# Altium integrated library Library.IntLib: 629 symbols (part 10 of 21)
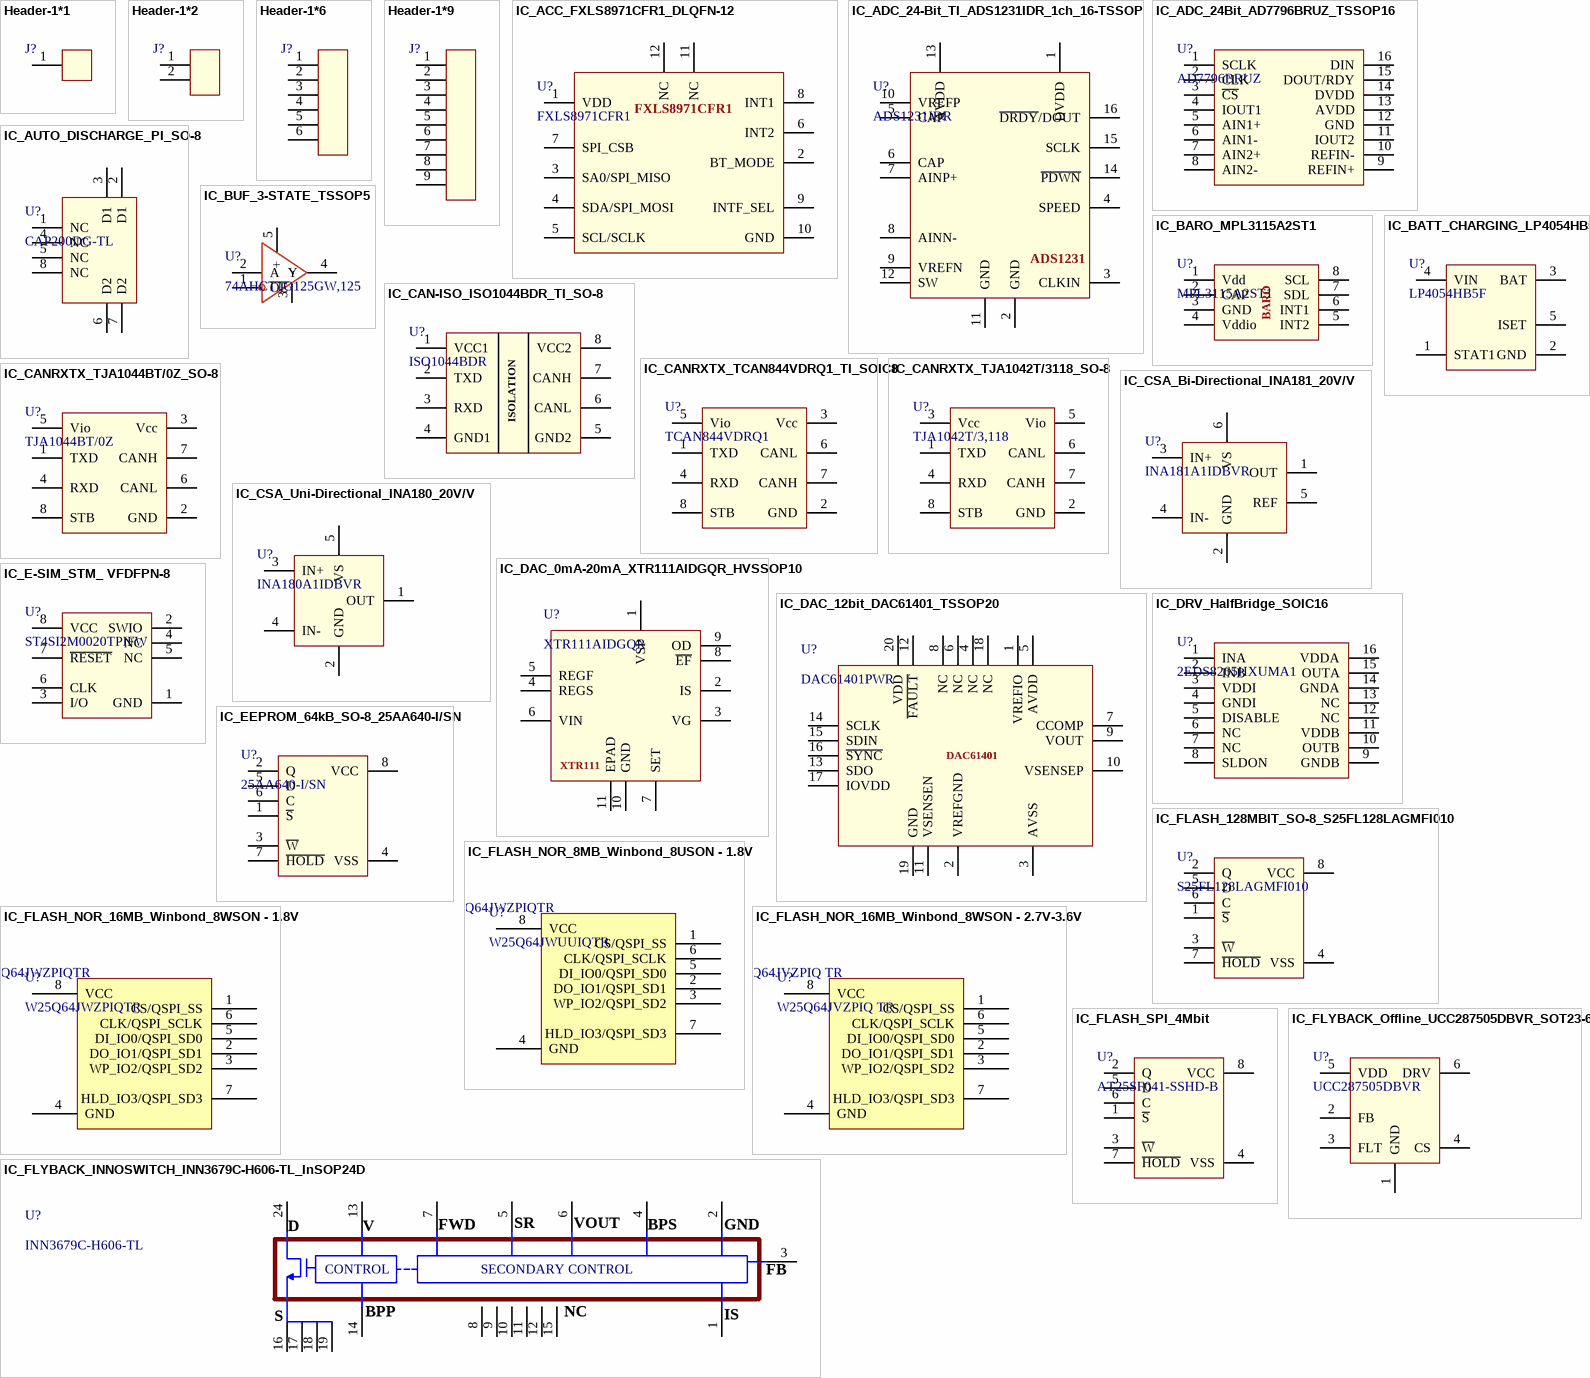
[diagram p27: symbols Header-1*1 to IC_FLYBACK_Offline_UCC287505DBVR_SOT23-6]

## IC_FLASH_NOR_16MB_Winbond_8WSON - 2.7V-3.6V
designator U?, comment W25Q64JVZPIQ TR
IC FLASH 64MBIT 104MHZ 8WSON; Manufacturer: Winbond; Supplier: Digikey; Supplier Part Number: W25Q64JVZPIQCT-ND; Manufacturer Part Number: W25Q64JVZPIQ TR; RoHS: Yes; Category: Memory; Stock: 74031; Pricing: 1=1.14, 10=1.038, 25=1.01, 50=1.005, 100=0.8983, 250=0.89568, 500=0.88218, 1000=0.84472 (USD); ComponentLink1URL: http://www.winbond.com/resource-files/w25q64jv%20spi%20%20%20revc%2006032016%20kms.pdf?src-supplier=Digikey; ComponentLink1Description: http://www.winbond.com/resource-files/w25q64jv%20spi%20%20%20revc%2006032016%20kms.pdf?src-supplier=Digikey; ComponentLink2URL: http://www.winbond.com/resource-files/w25q64jv%20revj%2003272018%20plus.pdf?src-supplier=Digikey; ComponentLink2Description: http://www.winbond.com/resource-files/w25q64jv%20revj%2003272018%20plus.pdf?src-supplier=Digikey
footprint WSON8 6*5mm WO Pad
pins: 1 CS/QSPI_SS, 2 DO_IO1/QSPI_SD1, 3 WP_IO2/QSPI_SD2, 4 GND, 5 DI_IO0/QSPI_SD0, 6 CLK/QSPI_SCLK, 7 HLD_IO3/QSPI_SD3, 8 VCC

## IC_FLASH_SPI_4Mbit
designator U?, comment AT25SF041-SSHD-B
4Mbit, 2.5V to 3.6V Range SPI Serial Flash Memory with Dual-I/O and Quad-I/O Support; Manufacturer: Renesas; Supplier: Newark; Supplier Part Number: 67AC3377; Manufacturer Part Number: AT25SF041-SSHD-B; RoHS: No; Category: Uncategorized
footprint SO-8 (1.27mm pitch)
pins: 1 ~{S}, 2 Q, 3 ~{W}, 4 VSS, 5 D, 6 C, 7 ~{HOLD}, 8 VCC

## IC_FLYBACK_INNOSWITCH_INN3679C-H606-TL_InSOP24D
designator U?, comment INN3679C-H606-TL
Converter Offline Flyback, Secondary Side SR Topology 65kHz InSOP-24D; Manufacturer: Power Integrations; Supplier: Digikey; Supplier Part Number: 596-INN3679C-H606-TLCT-ND; Manufacturer Part Number: INN3679C-H606-TL; RoHS: Yes; Category: Integrated Circuits (ICs); Stock: 4606; Pricing: 1=3.68, 100=3.0433, 1000=2.59001 (USD); RoHS Compliant: Yes; ComponentLink1URL: https://datasheet.ciiva.com:443/pdfs/VipMasterIC/IC/POIN/POIN-S-A0008602375/POIN-S-A0008602375-1.pdf?src-supplier=IHS+Markit; ComponentLink1Description: https://datasheet.ciiva.com:443/pdfs/VipMasterIC/IC/POIN/POIN-S-A0008602375/POIN-S-A0008602375-1.pdf?src-supplier=IHS+Markit; ComponentLink2URL: https://ac-dc.power.com/sites/default/files/product_document/data_sheet/innoswitch3-ep_family_datasheet.pdf?src-supplier=Digikey; ComponentLink2Description: https://ac-dc.power.com/sites/default/files/product_document/data_sheet/innoswitch3-ep_family_datasheet.pdf?src-supplier=Digikey
footprint InnoSwitch3-EP
pins: 1 IS, 2 GND, 3 FB, 4 BPS, 5 SR, 6 VOUT, 7 FWD, 8 NC, 9 NC, 10 NC, 11 NC, 12 NC, 13 V, 14 BPP, 15 NC, 16 S, 17 S, 18 S, 19 S, 24 D
text: CONTROL; SECONDARY CONTROL

## IC_FLYBACK_Offline_UCC287505DBVR_SOT23-6
designator U?, comment UCC287505DBVR
Current-mode flyback controller with secondary-side regulation (SSR) for offline applications 6-SOT-23 -40 to 125; Manufacturer: Texas Instruments; Supplier: Mouser; Supplier Part Number: 595-UCC287505DBVR; Manufacturer Part Number: UCC287505DBVR; RoHS: No; Stock: 2950; Pricing: 1=0.44, 10=0.355, 50=0.355, 100=0.242, 1000=0.136, 10000=0.109 (USD)
footprint SOT23-6
pins: 1 GND, 2 FB, 3 FLT, 4 CS, 5 VDD, 6 DRV

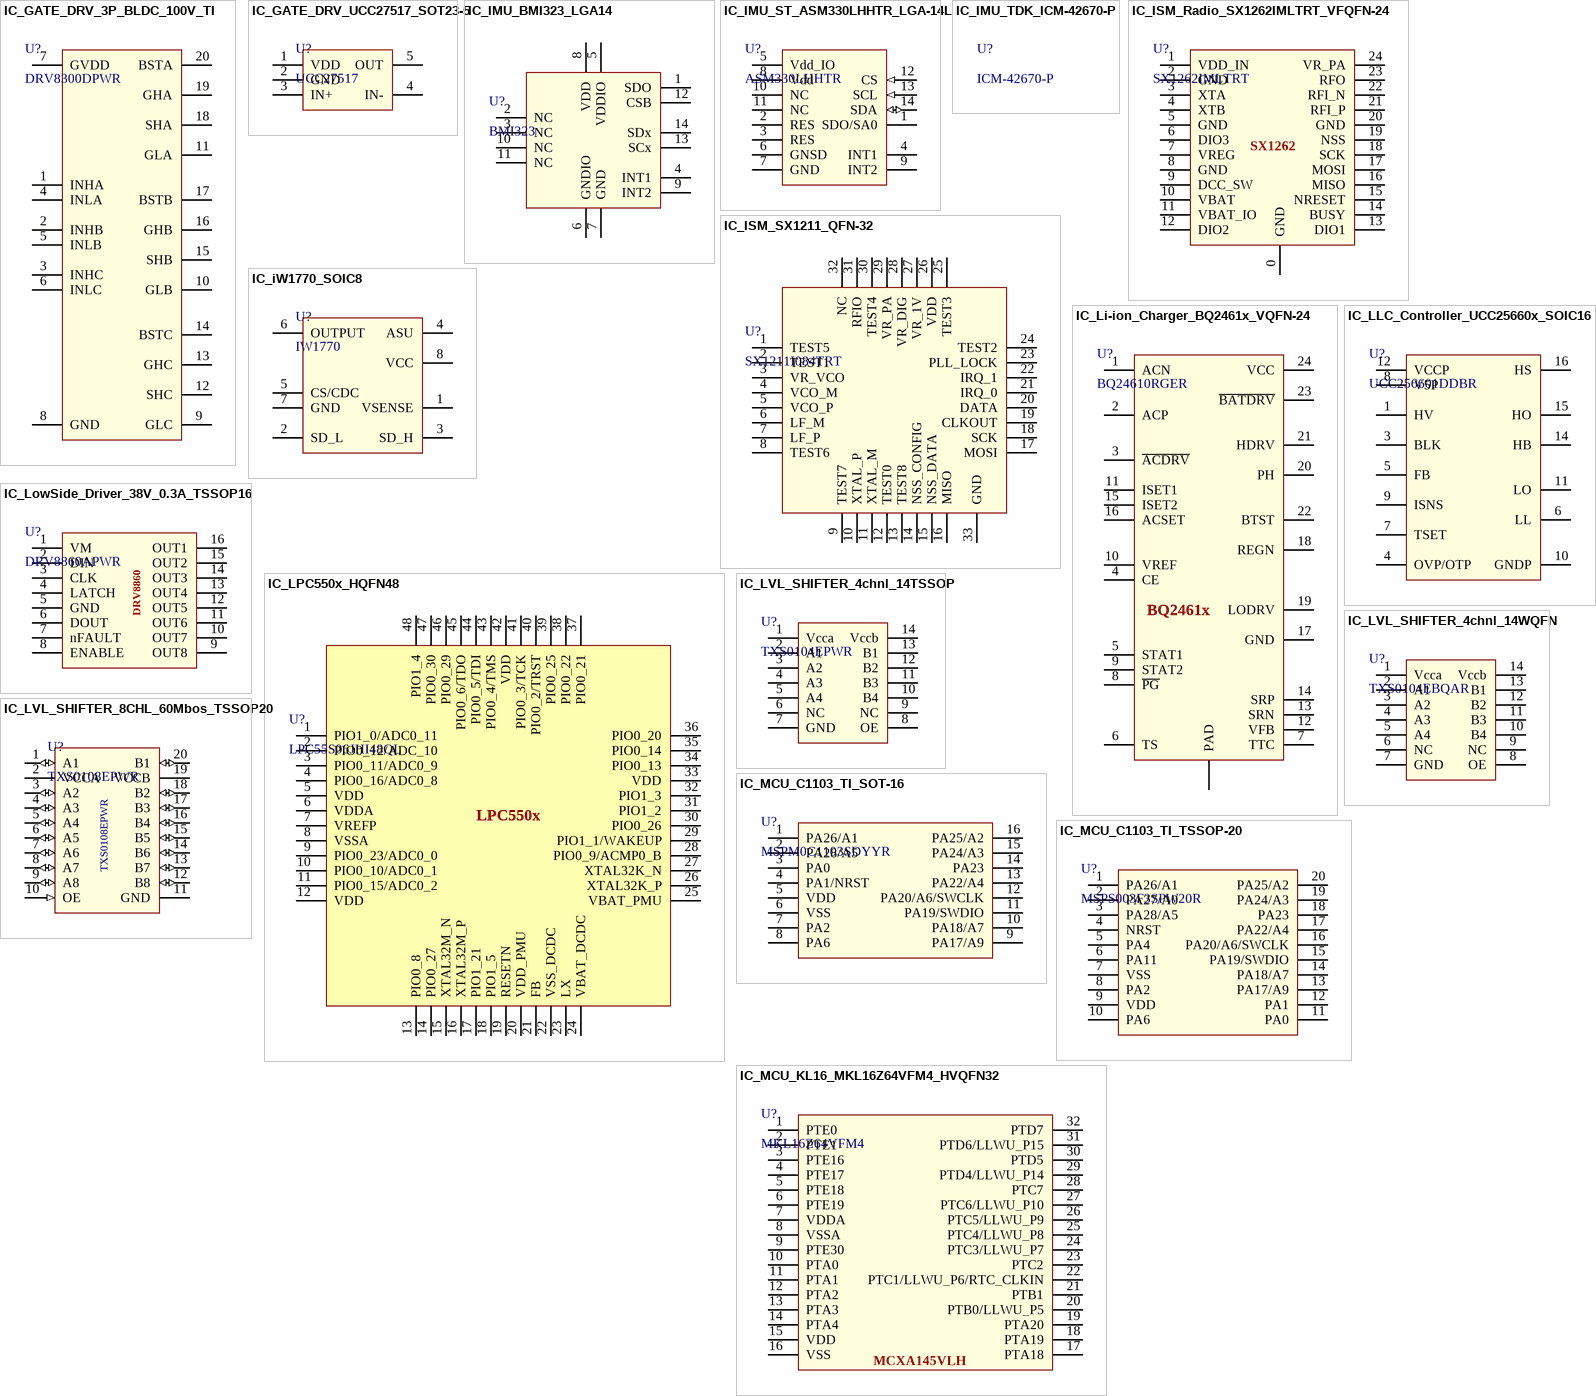
[diagram p7: symbols IC_GATE_DRV_3P_BLDC_100V_TI to IC_MCU_KL16_MKL16Z64VFM4_HVQFN32]

## IC_GATE_DRV_3P_BLDC_100V_TI
designator U?, comment DRV8300DPWR
Half Bridge Based MOSFET Driver, 1.5A, PDSO20; Manufacturer: Texas Instruments; Supplier: Digikey; Supplier Part Number: 296-DRV8300DPWRCT-ND; Manufacturer Part Number: DRV8300DPWR; RoHS: Yes; Category: Integrated Circuits (ICs); Stock: 8268; Pricing: 1=1.24, 10=1.105, 25=1.0488, 100=0.8616, 250=0.80544, 500=0.71178, 1000=0.56193 (USD)
footprint TSSOP20
pins: 1 INHA, 2 INHB, 3 INHC, 4 INLA, 5 INLB, 6 INLC, 7 GVDD, 8 GND, 9 GLC, 10 GLB, 11 GLA, 12 SHC, 13 GHC, 14 BSTC, 15 SHB, 16 GHB, 17 BSTB, 18 SHA, 19 GHA, 20 BSTA

## IC_GATE_DRV_UCC27517_SOT23-5
designator U?, comment UCC27517
Buffer/Inverter Based MOSFET Driver, 4A, PDSO5; Manufacturer: Texas Instruments; Manufacturer Part Number: UCC27517AQDBVRQ1; Package Body Material: Plastic; Interface IC Type: BUFFER OR INVERTER BASED MOSFET DRIVER; Package Equivalence Code: TSOP5/6,.11,37; Power Supplies: 12V; Qualification Status: Not Qualified; Supplier: Mouser; Supplier Part Number: 595-UCC27517AQDBVRQ1; RoHS: Yes; Category: Gate Drivers; Stock: 51349; Pricing: 1=1.16, 10=0.757, 50=0.757, 100=0.627, 1000=0.554, 10000=0.511 (USD); Case/Package: TSOP; Pins: 5; Package Shape: Rectangular; Terminal Finish: Nickel; Min Operating Temperature: -40°C; Max Operating Temperature: 140°C; JESD-609 Code: e4; JESD-30 Code: R-PDSO-G5; Moisture Sensitivity Level: 1; Package Style: SMALL OUTLINE, THIN PROFILEMeter; Peak Reflow Temperature (Cel): 260°C; Nominal Supply Voltage: 12V; Surface Mount: Yes; Terminal Form: Gull Wing; Terminal Position: DUAL; Terminal Pitch: 0.95mm; Temperature Grade: AUTOMOTIVE; Reach SVHC Compliant: Yes; RoHS Compliant: Yes; ComponentLink1URL: https://www.ti.com:443/lit/ds/symlink/ucc27517a-q1.pdf?src-supplier=IHS+Markit; ComponentLink1Description: https://www.ti.com:443/lit/ds/symlink/ucc27517a-q1.pdf?src-supplier=IHS+Markit; ComponentLink2URL: https://datasheet.ciiva.com/29985/ucc27517a-q1-29985866.pdf?src-supplier=Avnet; ComponentLink2Description: https://datasheet.ciiva.com/29985/ucc27517a-q1-29985866.pdf?src-supplier=Avnet; ComponentLink3URL: https://datasheet.ciiva.com/29600/ucc27517a-q1-29600683.pdf?src-supplier=Digikey; ComponentLink3Description: https://datasheet.ciiva.com/29600/ucc27517a-q1-29600683.pdf?src-supplier=Digikey
footprint SOT23-5
pins: 1 VDD, 2 GND, 3 IN+, 4 IN-, 5 OUT

## IC_IMU_BMI323_LGA14
designator U?, comment BMI323
IMU Accel/gyro I2C/SPI 14LGA; Manufacturer: Bosch Tools; Supplier: Digikey; Supplier Part Number: 828-BMI323CT-ND; Manufacturer Part Number: BMI323; RoHS: No; Category: Linear ICs; Stock: 4215; Pricing: 1=4.43, 5=3.73, 10=3.466, 25=3.1452, 50=2.9226, 100=2.7159, 500=2.29112, 1000=2.12941 (USD)
footprint LGA-14L
pins: 1 SDO, 2 NC, 3 NC, 4 INT1, 5 VDDIO, 6 GNDIO, 7 GND, 8 VDD, 9 INT2, 10 NC, 11 NC, 12 CSB, 13 SCx, 14 SDx

## IC_IMU_ST_ASM330LHHTR_LGA-14L
designator U?, comment ASM330LHHTR
Accelerometer, Gyroscope, Temperature, 6 Axis Sensor I2C, SPI Output; Manufacturer: STMicroelectronics; Throw Configuration: ANALOG CIRCUIT; Supplier: Digikey; Supplier Part Number: 497-19078-1-ND; Manufacturer Part Number: ASM330LHHTR; RoHS: Yes; Category: Inertial Measurement Units (IMUs); Stock: 8175; Pricing: 1=11.49, 10=9.191, 25=8.502, 100=7.353, 500=6.8934, 1000=6.43384 (USD); Reach SVHC Compliant: Yes; RoHS Compliant: Yes; ComponentLink1URL: https://datasheet.ciiva.com:443/pdfs/VipMasterIC/IC/SGST/SGST-S-A0007768447/SGST-S-A0007768447-1.pdf?src-supplier=IHS+Markit; ComponentLink1Description: https://datasheet.ciiva.com:443/pdfs/VipMasterIC/IC/SGST/SGST-S-A0007768447/SGST-S-A0007768447-1.pdf?src-supplier=IHS+Markit; ComponentLink2URL: https://www.st.com/resource/en/datasheet/asm330lhh.pdf?src-supplier=Digikey; ComponentLink2Description: https://www.st.com/resource/en/datasheet/asm330lhh.pdf?src-supplier=Digikey
footprint LGA-14L
pins: 1 SDO/SA0, 2 RES, 3 RES, 4 INT1, 5 Vdd_IO, 6 GNSD (power), 7 GND (power), 8 Vdd (power), 9 INT2, 10 NC, 11 NC, 12 CS (in), 13 SCL (in), 14 SDA (io)

## IC_IMU_TDK_ICM-42670-P
designator U?, comment ICM-42670-P
Manufacturer: TDK; Supplier: Mouser; Supplier Part Number: 410-ICM-42670-P; Manufacturer Part Number: ICM-42670-P; RoHS: No; Stock: 7642; Pricing: 1=4.8, 10=3.07, 50=3.07, 100=2.98, 1000=2.33, 10000=2.18 (USD)

## IC_ISM_Radio_SX1262IMLTRT_VFQFN-24
designator U?, comment SX1262IMLTRT
IC RF TxRx Only General ISM < 1GHz LoRaWAN 150MHz ~ 960MHz 24-VFQFN Exposed Pad; Manufacturer: Semtech; Telecom IC Type: TELECOM CIRCUIT; Supplier: Arrow Electronics; Supplier Part Number: SX1262IMLTRT; Manufacturer Part Number: SX1262IMLTRT; RoHS: Yes; Category: RF Receivers, Transceivers; Stock: 30000; Pricing: 3000=3.009 (USD); Reach SVHC Compliant: Yes; RoHS Compliant: Yes; ComponentLink1URL: https://datasheet.ciiva.com:443/pdfs/VipMasterIC/IC/SEMT/SEMT-S-A0008596633/SEMT-S-A0008596633-1.pdf?src-supplier=IHS+Markit; ComponentLink1Description: https://datasheet.ciiva.com:443/pdfs/VipMasterIC/IC/SEMT/SEMT-S-A0008596633/SEMT-S-A0008596633-1.pdf?src-supplier=IHS+Markit; ComponentLink2URL: http://www.farnell.com/datasheets/2829356.pdf?src-supplier=Farnell; ComponentLink2Description: http://www.farnell.com/datasheets/2829356.pdf?src-supplier=Farnell; ComponentLink3URL: https://www.semtech.com/uploads/documents/DS_SX1261-2_V1.1.pdf?src-supplier=Digikey; ComponentLink3Description: https://www.semtech.com/uploads/documents/DS_SX1261-2_V1.1.pdf?src-supplier=Digikey; ComponentLink4URL: https://semtech.my.salesforce.com/sfc/p/E0000000JelG/a/2R000000HT7B/4cQ1B3JG0iKRo9DGRkjVuxclfwB.3tfSUcGr.S_dPd4?src-supplier=Digikey; ComponentLink4Description: https://semtech.my.salesforce.com/sfc/p/E0000000JelG/a/2R000000HT7B/4cQ1B3JG0iKRo9DGRkjVuxclfwB.3tfSUcGr.S_dPd4?src-supplier=Digikey; ComponentLink5URL: http://www.farnell.com/datasheets/2829356.pdf?src-supplier=Newark; ComponentLink5Description: http://www.farnell.com/datasheets/2829356.pdf?src-supplier=Newark
footprint VFQFN-24
pins: 0 GND, 1 VDD_IN, 2 GND, 3 XTA, 4 XTB, 5 GND, 6 DIO3, 7 VREG, 8 GND, 9 DCC_SW, 10 VBAT, 11 VBAT_IO, 12 DIO2, 13 DIO1, 14 BUSY, 15 NRESET, 16 MISO, 17 MOSI, 18 SCK, 19 NSS, 20 GND, 21 RFI_P, 22 RFI_N, 23 RFO, 24 VR_PA
text: SX1262

## IC_ISM_SX1211_QFN-32
designator U?, comment SX1211I084TRT
Ethernet Transceiver; Manufacturer: Semtech; Channels: 1; Package Equivalence Code: LCC32,.2SQ,20; Power Supplies: 3.3V; Max Supply Current: 30uA; Qualification Status: Not Qualified; Supplier: Farnell; Supplier Part Number: 2308697; Manufacturer Part Number: SX1211I084TRT; RoHS: Yes; Category: RF Receivers, Transceivers; Stock: 1622; Pricing: 1=4.77, 10=3.89, 25=3.76, 50=3.63, 100=3.5, 250=3.2, 500=2.87 (EUR); Case/Package: HVQCCN; Pins: 32; Package Shape: Square; Terminal Finish: Tin; Min Operating Temperature: -40°C; Max Operating Temperature: 85°C; JESD-609 Code: e3; JESD-30 Code: S-XQCC-N32; Package Style: CHIP CARRIER, HEAT SINK/SLUG, VERY THIN PROFILEMeter; Nominal Supply Voltage: 3.3V; Surface Mount: Yes; Telecom IC Type: ETHERNET TRANSCEIVER; Terminal Form: No Lead; Terminal Position: QUAD; Length: 5mm; Width: 5mm; Height - Seated (Max): 0.8mm; Terminal Pitch: 0.5mm; Temperature Grade: INDUSTRIAL; Reach SVHC Compliant: Yes; RoHS Compliant: Yes; ComponentLink1URL: https://datasheet.ciiva.com:443/pdfs/VipMasterIC/IC/SEMT/SEMTS04267/SEMTS04267-1.pdf?src-supplier=IHS+Markit; ComponentLink1Description: https://datasheet.ciiva.com:443/pdfs/VipMasterIC/IC/SEMT/SEMTS04267/SEMTS04267-1.pdf?src-supplier=IHS+Markit; ComponentLink2URL: https://datasheet.ciiva.com/22617/1699438-22617255.pdf?src-supplier=Element14; ComponentLink2Description: https://datasheet.ciiva.com/22617/1699438-22617255.pdf?src-supplier=Element14; ComponentLink3URL: https://datasheet.ciiva.com/2800/sx1211-2800336.pdf?src-supplier=Digikey; ComponentLink3Description: https://datasheet.ciiva.com/2800/sx1211-2800336.pdf?src-supplier=Digikey; ComponentLink4URL: https://datasheet.ciiva.com/2800/sx1211-2800337.pdf?src-supplier=Digikey; ComponentLink4Description: https://datasheet.ciiva.com/2800/sx1211-2800337.pdf?src-supplier=Digikey
footprint QFN-32
pins: 1 TEST5, 2 TEST1, 3 VR_VCO , 4 VCO_M, 5 VCO_P, 6 LF_M, 7 LF_P, 8 TEST6, 9 TEST7, 10 XTAL_P, 11 XTAL_M, 12 TEST0, 13 TEST8, 14 NSS_CONFIG, 15 NSS_DATA, 16 MISO, 17 MOSI, 18 SCK, 19 CLKOUT, 20 DATA, 21 IRQ_0, 22 IRQ_1, 23 PLL_LOCK, 24 TEST2, 25 TEST3, 26 VDD, 27 VR_1V, 28 VR_DIG, 29 VR_PA, 30 TEST4, 31 RFIO, 32 NC, 33 GND

## IC_iW1770_SOIC8
designator U?, comment IW1770
Switching Controller; Manufacturer: Dialog Semiconductor; Manufacturer Part Number: IW1770-03; Supplier: Avnet; Supplier Part Number: IW1770-03; RoHS: No; Category: Power Supply Modules; Pricing: 5000=0.83 (USD); Throw Configuration: SWITCHING CONTROLLER; ComponentLink1URL: https://datasheet.ciiva.com:443/pdfs/VipMasterIC/IC/DIAL/DIAL-S-A0004998201/DIAL-S-A0004998201-1.pdf?src-supplier=IHS+Markit; ComponentLink1Description: https://datasheet.ciiva.com:443/pdfs/VipMasterIC/IC/DIAL/DIAL-S-A0004998201/DIAL-S-A0004998201-1.pdf?src-supplier=IHS+Markit
footprint SO-8 (1.27mm pitch)
pins: 1 VSENSE, 2 SD_L, 3 SD_H, 4 ASU, 5 CS/CDC, 6 OUTPUT, 7 GND, 8 VCC

## IC_Li-ion_Charger_BQ2461x_VQFN-24
designator U?, comment BQ24610RGER
Power Supply Support Circuit, Adjustable, 1 Channel, +3.85V, PQCC24; Manufacturer: Texas Instruments; Package Body Material: Plastic; Adjustable Threshold: Yes; Number of Channels: 1; Package Equivalence Code: LCC24,.16SQ,20; Power Supplies: 5/28V; Max Supply Voltage: 28V; Min Supply Voltage: 5V; Qualification Status: Not Qualified; Supplier: Mouser; Supplier Part Number: 595-BQ24610RGER; Manufacturer Part Number: BQ24610RGER; RoHS: Yes; Category: Battery Management; Stock: 2643; Pricing: 1=4.02, 10=3.08, 50=2.84, 100=2.58, 1000=2.3, 10000=2.23 (USD); Case/Package: HVQCCN; Pins: 24; Package Shape: Square; Terminal Finish: Nickel; Min Operating Temperature: -40°C; Max Operating Temperature: 85°C; JESD-609 Code: e4; Throw Configuration: POWER SUPPLY SUPPORT CIRCUIT; Moisture Sensitivity Level: 2; Channels: 1; Package Style: CHIP CARRIER, HEAT SINK/SLUG, VERY THIN PROFILEMeter; Peak Reflow Temperature (Cel): 260°C; Surface Mount: Yes; Terminal Form: No Lead; Terminal Position: QUAD; Length: 4mm; Width: 4mm; Height - Seated (Max): 1mm; Terminal Pitch: 0.5mm; Temperature Grade: INDUSTRIAL; Reach SVHC Compliant: Yes; RoHS Compliant: Yes; ComponentLink1URL: https://www.ti.com:443/lit/ds/symlink/bq24610.pdf?src-supplier=IHS+Markit; ComponentLink1Description: https://www.ti.com:443/lit/ds/symlink/bq24610.pdf?src-supplier=IHS+Markit; ComponentLink2URL: https://datasheet.ciiva.com/1934/bq24610-1934921.pdf?src-supplier=Digikey; ComponentLink2Description: https://datasheet.ciiva.com/1934/bq24610-1934921.pdf?src-supplier=Digikey; ComponentLink3URL: https://datasheet.ciiva.com/1934/bq24610-1934920.pdf?src-supplier=Digikey; ComponentLink3Description: https://datasheet.ciiva.com/1934/bq24610-1934920.pdf?src-supplier=Digikey; ComponentLink4URL: https://datasheet.ciiva.com/1934/bq24610-1934922.pdf?src-supplier=Digikey; ComponentLink4Description: https://datasheet.ciiva.com/1934/bq24610-1934922.pdf?src-supplier=Digikey
footprint VFQFN-24
pins: 0 PAD, 1 ACN, 2 ACP, 3 ~{ACDRV}, 4 CE, 5 STAT1, 6 TS, 7 TTC, 8 ~{PG}, 9 STAT2, 10 VREF, 11 ISET1, 12 VFB, 13 SRN, 14 SRP, 15 ISET2, 16 ACSET, 17 GND, 18 REGN, 19 LODRV, 20 PH, 21 HDRV, 22 BTST, 23 ~{BATDRV}, 24 VCC
text: BQ2461x

## IC_LLC_Controller_UCC25660x_SOIC16
designator U?, comment UCC256601DDBR
Power Supply Controller LLC, Resonant Converter Controller 14-SOIC; Manufacturer: Texas Instruments; Supplier: Mouser; Supplier Part Number: 595-UCC256601DDBR; Manufacturer Part Number: UCC256601DDBR; RoHS: No; Stock: 1998; Pricing: 1=2.4, 10=1.63, 50=1.63, 100=1.46, 1000=1.29, 10000=1.19 (USD)
footprint SOIC 16 14-16
pins: 1 HV, 3 BLK, 4 OVP/OTP, 5 FB, 6 LL, 7 TSET, 8 V5P, 9 ISNS, 10 GNDP, 11 LO, 12 VCCP, 14 HB, 15 HO, 16 HS

## IC_LowSide_Driver_38V_0.3A_TSSOP16
designator U?, comment DRV8860APWR
Buffer/Inverter Based Peripheral Driver, PDSO16; Manufacturer: Texas Instruments; Interface IC Type: BUFFER OR INVERTER BASED PERIPHERAL DRIVER; Supplier: Mouser; Supplier Part Number: 595-DRV8860APWR; Manufacturer Part Number: DRV8860APWR; RoHS: Yes; Category: Integrated Circuits (ICs); Stock: 1689; Pricing: 1=2.44, 10=2.07, 50=1.96, 100=1.85, 1000=1.64, 10000=1.55 (USD); Terminal Finish: Nickel; JESD-609 Code: e4; Moisture Sensitivity Level: 1; Reach SVHC Compliant: Yes; RoHS Compliant: Yes; ComponentLink1URL: https://www.ti.com:443/lit/ds/symlink/drv8860.pdf?src-supplier=IHS+Markit; ComponentLink1Description: https://www.ti.com:443/lit/ds/symlink/drv8860.pdf?src-supplier=IHS+Markit; ComponentLink2URL: http://www.ti.com/lit/ds/symlink/drv8860.pdf?src-supplier=Digikey; ComponentLink2Description: http://www.ti.com/lit/ds/symlink/drv8860.pdf?src-supplier=Digikey; ComponentLink3URL: http://www.ti.com/general/docs/suppproductinfo.tsp?distId=10&amp;gotoUrl=http%3A%2F%2Fwww.ti.com%2Flit%2Fgpn%2Fdrv8860&src-supplier=Digikey; ComponentLink3Description: http://www.ti.com/general/docs/suppproductinfo.tsp?distId=10&amp;gotoUrl=http%3A%2F%2Fwww.ti.com%2Flit%2Fgpn%2Fdrv8860&src-supplier=Digikey; ComponentLink4URL: http://www.farnell.com/datasheets/2075781.pdf?src-supplier=Element14; ComponentLink4Description: http://www.farnell.com/datasheets/2075781.pdf?src-supplier=Element14
footprint TSSOP16
pins: 1 VM, 2 DIN, 3 CLK, 4 LATCH, 5 GND, 6 DOUT, 7 nFAULT, 8 ENABLE, 9 OUT8, 10 OUT7, 11 OUT6, 12 OUT5, 13 OUT4, 14 OUT3, 15 OUT2, 16 OUT1
text: DRV8860

## IC_LPC550x_HQFN48
designator U?, comment LPC55S06JHI48QL
MCU 32-Bit ARM Cortex-M33 RISC 256kByte Flash 1.8V to 3.6V 48-Pin HVQFN Tray; Manufacturer: NXP Semiconductors; Supplier: Mouser; Supplier Part Number: 771-LPC55S06JHI48QL; Manufacturer Part Number: LPC55S06JHI48QL; RoHS: No; Category: Microcontrollers; Stock: 2605; Pricing: 1=6.51, 10=5.09, 50=5.09, 100=4.17, 1000=4.17, 10000=3.51 (USD)
pins: 1 PIO1_0/ADC0_11, 2 PIO0_12/ADC_10, 3 PIO0_11/ADC0_9, 4 PIO0_16/ADC0_8, 5 VDD, 6 VDDA, 7 VREFP, 8 VSSA, 9 PIO0_23/ADC0_0, 10 PIO0_10/ADC0_1, 11 PIO0_15/ADC0_2, 12 VDD, 13 PIO0_8, 14 PIO0_27, 15 XTAL32M_N, 16 XTAL32M_P, 17 PIO1_21, 18 PIO1_5, 19 RESETN, 20 VDD_PMU, 21 FB, 22 VSS_DCDC, 23 LX, 24 VBAT_DCDC, 25 VBAT_PMU, 26 XTAL32K_P, 27 XTAL32K_N, 28 PIO0_9/ACMP0_B, 29 PIO1_1/WAKEUP, 30 PIO0_26, 31 PIO1_2, 32 PIO1_3, 33 VDD, 34 PIO0_13, 35 PIO0_14, 36 PIO0_20, 37 PIO0_21, 38 PIO0_22, 39 PIO0_25, 40 PIO0_2/TRST, 41 PIO0_3/TCK, 42 VDD, 43 PIO0_4/TMS, 44 PIO0_5/TDI, 45 PIO0_6/TDO, 46 PIO0_29, 47 PIO0_30, 48 PIO1_4
text: LPC550x

## IC_LVL_SHIFTER_4chnl_14TSSOP
designator U?, comment TXS0104EPWR
IC TRANSLATOR BIDIR 14TSSOP; Manufacturer: Texas Instruments; Package Body Material: Plastic; Interface IC Type: INTERFACE CIRCUIT; Channels: 1; Package Equivalence Code: TSSOP14,.25; Power Supplies: 1.8/3.3,2.5/5V; Supply Voltage1-Max: 5.5V; Supply Voltage1-Min: 2.3V; Supply Voltage1-Nom: 3.3V; Max Supply Voltage: 3.6V; Min Supply Voltage: 1.65V; Nominal Supply Voltage: 1.8V; Qualification Status: Not Qualified; Supplier: Mouser; Supplier Part Number: 595-TXS0104EPWR; Manufacturer Part Number: TXS0104EPWR; RoHS: Yes; Category: Voltage Level Shifters; Stock: 26495; Pricing: 1=1.07, 10=0.915, 50=0.915, 100=0.705, 1000=0.492, 10000=0.412 (USD); Case/Package: TSSOP; Pins: 14; Package Shape: Rectangular; Terminal Finish: Nickel; Min Operating Temperature: -40°C; Max Operating Temperature: 85°C; JESD-609 Code: e4; JESD-30 Code: R-PDSO-G14; Moisture Sensitivity Level: 1; Package Style: SMALL OUTLINE, THIN PROFILE, SHRINK PITCHMeter; Peak Reflow Temperature (Cel): 260°C; Surface Mount: Yes; Terminal Form: Gull Wing; Terminal Position: DUAL; Length: 5mm; Width: 4.4mm; Height - Seated (Max): 1.2mm; Terminal Pitch: 0.65mm; Temperature Grade: INDUSTRIAL; Reach SVHC Compliant: Yes; RoHS Compliant: Yes; ComponentLink1URL: https://www.ti.com:443/lit/ds/symlink/txs0104e.pdf?src-supplier=IHS+Markit; ComponentLink1Description: https://www.ti.com:443/lit/ds/symlink/txs0104e.pdf?src-supplier=IHS+Markit; ComponentLink2URL: https://datasheet.ciiva.com/1899/txs0104e-1899556.pdf?src-supplier=Digikey; ComponentLink2Description: https://datasheet.ciiva.com/1899/txs0104e-1899556.pdf?src-supplier=Digikey; ComponentLink3URL: https://datasheet.ciiva.com/1899/txs0104e-1899557.pdf?src-supplier=Digikey; ComponentLink3Description: https://datasheet.ciiva.com/1899/txs0104e-1899557.pdf?src-supplier=Digikey; ComponentLink4URL: https://datasheet.ciiva.com/1899/txs0104e-1899558.pdf?src-supplier=Digikey; ComponentLink4Description: https://datasheet.ciiva.com/1899/txs0104e-1899558.pdf?src-supplier=Digikey; ComponentLink5URL: https://datasheet.ciiva.com/14287/txs0104e-14287275.pdf?src-supplier=Avnet; ComponentLink5Description: https://datasheet.ciiva.com/14287/txs0104e-14287275.pdf?src-supplier=Avnet
footprint TSSOP14
pins: 1 Vcca, 2 A1, 3 A2, 4 A3, 5 A4, 6 NC, 7 GND, 8 OE, 9 NC, 10 B4, 11 B3, 12 B2, 13 B1, 14 Vccb

## IC_LVL_SHIFTER_4chnl_14WQFN
designator U?, comment TXS0104EBQAR
Four-bit bidirectional voltage-level shifter for open-drain and push-pull applications 14-WQFN -40 to 125; Manufacturer: Texas Instruments; Supplier: Mouser; Supplier Part Number: 595-TXS0104EBQAR; Manufacturer Part Number: TXS0104EBQAR; RoHS: No; Category: Integrated Circuits (ICs); Stock: 2447; Pricing: 1=0.95, 10=0.846, 50=0.846, 100=0.66, 1000=0.449, 10000=0.367 (USD)
footprint WQFN-14
pins: 1 Vcca, 2 A1, 3 A2, 4 A3, 5 A4, 6 NC, 7 GND, 8 OE, 9 NC, 10 B4, 11 B3, 12 B2, 13 B1, 14 Vccb

## IC_LVL_SHIFTER_8CHL_60Mbos_TSSOP20
designator U?, comment TXS0108EPWR
Voltage Level Translator Bidirectional 1 Circuit 8 Channel 60Mbps 20-TSSOP; Manufacturer: Texas Instruments; Package Body Material: Plastic; Channels: 1; Interface IC Type: INTERFACE CIRCUIT; Package Equivalence Code: TSSOP20,.25; Power Supplies: 1.2/3.6,1.8/5V; Max Supply Voltage: 3.6V; Min Supply Voltage: 1.2V; Nominal Supply Voltage: 2.5V; Qualification Status: Not Qualified; Supplier: Digi-Key; Supplier Part Number: 296-23011-1-ND; Manufacturer Part Number: TXS0108EPWR; RoHS: Yes; Category: Voltage Level Shifters; Stock: 31750; Pricing: 1=1.5, 10=1.344, 25=1.2676, 100=1.08, 250=1.01404, 500=0.88728, 1000=0.73518 (USD); Case/Package: TSSOP; Pins: 20; Package Shape: Rectangular; Terminal Finish: Nickel; Min Operating Temperature: -40°C; Max Operating Temperature: 85°C; JESD-609 Code: e4; JESD-30 Code: R-PDSO-G20; Moisture Sensitivity Level: 1; Package Style: SMALL OUTLINE, THIN PROFILE, SHRINK PITCHMeter; Surface Mount: Yes; Terminal Form: Gull Wing; Terminal Position: DUAL; Peak Reflow Temperature (Cel): 260°C; Length: 6.5mm; Width: 4.4mm; Height - Seated (Max): 1.2mm; Terminal Pitch: 0.65mm; Temperature Grade: INDUSTRIAL; Reach SVHC Compliant: Yes; RoHS Compliant: Yes; ComponentLink1URL: https://www.ti.com:443/lit/ds/symlink/txs0108e.pdf?src-supplier=IHS+Markit; ComponentLink1Description: https://www.ti.com:443/lit/ds/symlink/txs0108e.pdf?src-supplier=IHS+Markit; ComponentLink2URL: https://datasheet.ciiva.com/14287/txs0108e-14287280.pdf?src-supplier=Farnell; ComponentLink2Description: https://datasheet.ciiva.com/14287/txs0108e-14287280.pdf?src-supplier=Farnell; ComponentLink3URL: https://datasheet.ciiva.com/28653/1714661-28653429.pdf?src-supplier=Element14; ComponentLink3Description: https://datasheet.ciiva.com/28653/1714661-28653429.pdf?src-supplier=Element14; ComponentLink4URL: https://datasheet.ciiva.com/1508/1815244-1508732.pdf?src-supplier=Element14; ComponentLink4Description: https://datasheet.ciiva.com/1508/1815244-1508732.pdf?src-supplier=Element14; ComponentLink5URL: https://datasheet.ciiva.com/1899/txs0108e-1899605.pdf?src-supplier=Digi-Key; ComponentLink5Description: https://datasheet.ciiva.com/1899/txs0108e-1899605.pdf?src-supplier=Digi-Key; ComponentLink6URL: https://datasheet.ciiva.com/1899/txs0108e-1899604.pdf?src-supplier=Digi-Key; ComponentLink6Description: https://datasheet.ciiva.com/1899/txs0108e-1899604.pdf?src-supplier=Digi-Key
footprint TSSOP20
pins: 1 A1 (io), 2 VCCA (power), 3 A2 (io), 4 A3 (io), 5 A4 (io), 6 A5 (io), 7 A6 (io), 8 A7 (io), 9 A8 (io), 10 OE (in), 11 GND (power), 12 B8 (io), 13 B7 (io), 14 B6 (io), 15 B5 (io), 16 B4 (io), 17 B3 (io), 18 B2 (io), 19 VCCB (power), 20 B1 (io)

## IC_MCU_C1103_TI_SOT-16
designator U?, comment MSPM0C1103SDYYR
Manufacturer: Texas Instruments; Supplier: Digikey; Supplier Part Number: 296-MSPM0C1103SDYYRTR-ND; Manufacturer Part Number: MSPM0C1103SDYYR; RoHS: No; Category: LDO; Pricing: 3000=0.25059, 6000=0.24402, 9000=0.24073, 15000=0.23709, 21000=0.23496, 30000=0.23291 (USD)
pins: 1 PA26/A1, 2 PA28/A5, 3 PA0, 4 PA1/NRST, 5 VDD, 6 VSS, 7 PA2, 8 PA6, 9 PA17/A9, 10 PA18/A7, 11 PA19/SWDIO, 12 PA20/A6/SWCLK, 13 PA22/A4, 14 PA23, 15 PA24/A3, 16 PA25/A2

## IC_MCU_C1103_TI_TSSOP-20
designator U?, comment MSPS003F3SPW20R
ARM® Cortex®-M0+ MSPM0C110x Microcontroller IC 32-Bit 24MHz 8KB (8K x 8) FLASH 20-TSSOP; Manufacturer: Texas Instruments; Supplier: Digikey; Supplier Part Number: 296-MSPS003F3SPW20RCT-ND; Manufacturer Part Number: MSPS003F3SPW20R; RoHS: No; Pricing: 1=0.64, 10=0.455, 25=0.408, 100=0.3562, 250=0.3316, 500=0.31674, 1000=0.30452 (USD)
footprint TSSOP20
pins: 1 PA26/A1, 2 PA27/A0, 3 PA28/A5, 4 NRST, 5 PA4, 6 PA11, 7 VSS, 8 PA2, 9 VDD, 10 PA6, 11 PA0, 12 PA1, 13 PA17/A9, 14 PA18/A7, 15 PA19/SWDIO, 16 PA20/A6/SWCLK, 17 PA22/A4, 18 PA23, 19 PA24/A3, 20 PA25/A2

## IC_MCU_KL16_MKL16Z64VFM4_HVQFN32
designator U?, comment MKL16Z64VFM4
IC MCU 32BIT 64KB FLASH 32QFN; Manufacturer: NXP Semiconductors; Supplier: Farnell; Supplier Part Number: 2453539; Manufacturer Part Number: MKL16Z64VFM4; RoHS: No; Category: Microcontrollers; Stock: 2410; Pricing: 1=3.21, 10=2.22, 25=2.18, 50=2.15, 100=2.11, 250=2.09, 500=2.07, 1000=2.05 (EUR); ComponentLink1URL: https://datasheet.ciiva.com/18626/lserieskl1xfs-18626924.pdf?src-supplier=Digikey; ComponentLink1Description: https://datasheet.ciiva.com/18626/lserieskl1xfs-18626924.pdf?src-supplier=Digikey
pins: 1 PTE0, 2 PTE1, 3 PTE16, 4 PTE17, 5 PTE18, 6 PTE19, 7 VDDA, 8 VSSA, 9 PTE30, 10 PTA0, 11 PTA1, 12 PTA2, 13 PTA3, 14 PTA4, 15 VDD, 16 VSS, 17 PTA18, 18 PTA19, 19 PTA20, 20 PTB0/LLWU_P5, 21 PTB1, 22 PTC1/LLWU_P6/RTC_CLKIN, 23 PTC2, 24 PTC3/LLWU_P7, 25 PTC4/LLWU_P8, 26 PTC5/LLWU_P9, 27 PTC6/LLWU_P10, 28 PTC7, 29 PTD4/LLWU_P14, 30 PTD5, 31 PTD6/LLWU_P15, 32 PTD7
text: MCXA145VLH

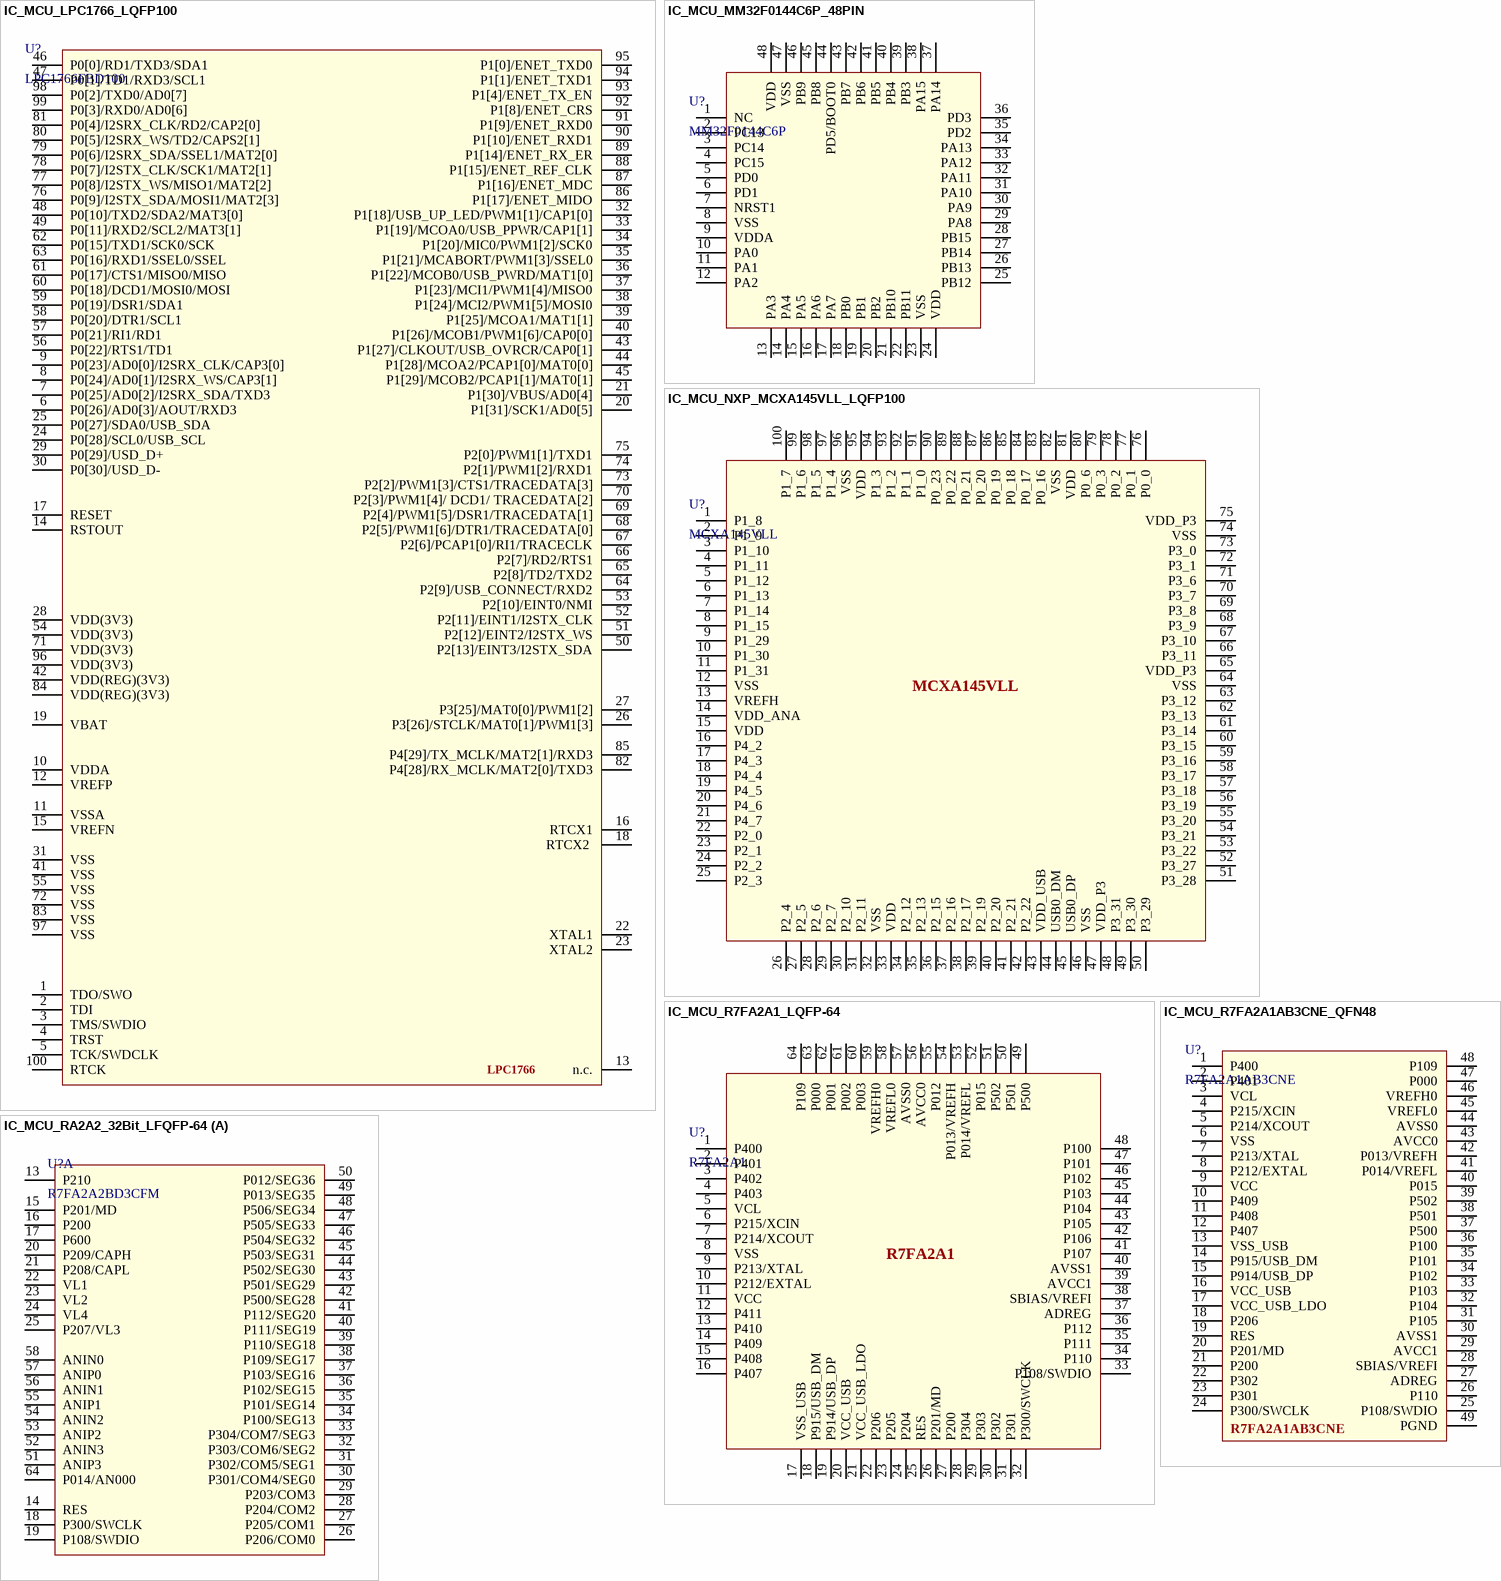
[diagram p8: symbols IC_MCU_LPC1766_LQFP100 to IC_MCU_RA2A2_32Bit_LFQFP-64]

## IC_MCU_LPC1766_LQFP100
designator U?, comment LPC1766FBD100
RISC Microcontroller, 32-Bit, FLASH, CORTEX-M3 CPU, 100MHz, CMOS, PQFP100; Manufacturer: NXP Semiconductors; Manufacturer Part Number: LPC1766FBD100,551; Package Body Material: Plastic; Clock Frequency: 25MHz; Number of I/O Lines: 70; Package Equivalence Code: QFP100,.63SQ,20; Power Supplies: 2.5/3.3,3/3.3; Max Supply Voltage: 3.6V; Min Supply Voltage: 2.4V; Nominal Supply Voltage: 3.3V; Time @ Peak Reflow Temperature-Max (s): 30s; Qualification Status: Not Qualified; Supplier: Farnell; Supplier Part Number: 1718548; RoHS: Yes; Category: Microprocessors; Pricing: 1=7.88, 10=6.64, 25=6.33, 50=5.91, 100=5.49, 250=5.24 (GBP); Case/Package: LFQFP; Pins: 100; Package Shape: Square; Terminal Finish: Tin; Min Operating Temperature: -40°C; Max Operating Temperature: 85°C; JESD-609 Code: e3; JESD-30 Code: S-PQFP-G100; Moisture Sensitivity Level: 3; Peak Reflow Temperature (Cel): 260°C; Surface Mount: Yes; Technology: CMOS; Terminal Form: Gull Wing; Terminal Position: QUAD; Length: 14mm; Width: 14mm; Height - Seated (Max): 1.6mm; Terminal Pitch: 0.5mm; Temperature Grade: INDUSTRIAL; Reach SVHC Compliant: Yes; RoHS Compliant: Yes; ComponentLink1URL: https://datasheet.ciiva.com:443/pdfs/VipMasterIC/IC/PHGL/PHGL-S-A0005068107/PHGL-S-A0005068107-1.pdf?src-supplier=IHS+Markit; ComponentLink1Description: https://datasheet.ciiva.com:443/pdfs/VipMasterIC/IC/PHGL/PHGL-S-A0005068107/PHGL-S-A0005068107-1.pdf?src-supplier=IHS+Markit; ComponentLink2URL: https://datasheet.ciiva.com/36858/1815166-36858114.pdf?src-supplier=Element14; ComponentLink2Description: https://datasheet.ciiva.com/36858/1815166-36858114.pdf?src-supplier=Element14; ComponentLink3URL: https://datasheet.ciiva.com/4841/lpc1769-68-67-66-65-64-63-88408-4841202.pdf?src-supplier=Mouser; ComponentLink3Description: https://datasheet.ciiva.com/4841/lpc1769-68-67-66-65-64-63-88408-4841202.pdf?src-supplier=Mouser; ComponentLink4URL: https://datasheet.ciiva.com/15122/getdatasheetpartid-117627-15122400.pdf?src-supplier=Verical; ComponentLink4Description: https://datasheet.ciiva.com/15122/getdatasheetpartid-117627-15122400.pdf?src-supplier=Verical; ComponentLink5URL: https://datasheet.ciiva.com/6654/lpc1769-68-67-66-65-64-63-6654862.pdf?src-supplier=Digikey; ComponentLink5Description: https://datasheet.ciiva.com/6654/lpc1769-68-67-66-65-64-63-6654862.pdf?src-supplier=Digikey; ComponentLink6URL: https://datasheet.ciiva.com/9221/lpc1769-68-67-66-65-64-63-9221926.pdf?src-supplier=Avnet; ComponentLink6Description: https://datasheet.ciiva.com/9221/lpc1769-68-67-66-65-64-63-9221926.pdf?src-supplier=Avnet
footprint LQFP_100 (MCXA145VLL 0.5mm Pitch)
pins: 1 TDO/SWO , 2 TDI, 3 TMS/SWDIO, 4 TRST , 5 TCK/SWDCLK , 6 P0[26]/AD0[3]/AOUT/RXD3, 7 P0[25]/AD0[2]/I2SRX_SDA/TXD3, 8 P0[24]/AD0[1]/I2SRX_WS/CAP3[1], 9 P0[23]/AD0[0]/I2SRX_CLK/CAP3[0], 10 VDDA, 11 VSSA , 12 VREFP, 13 n.c., 14 RSTOUT, 15 VREFN, 16 RTCX1, 17 RESET, 18 RTCX2 , 19 VBAT, 20 P1[31]/SCK1/AD0[5], 21 P1[30]/VBUS/AD0[4], 22 XTAL1, 23 XTAL2, 24 P0[28]/SCL0/USB_SCL, 25 P0[27]/SDA0/USB_SDA, 26 P3[26]/STCLK/MAT0[1]/PWM1[3], 27 P3[25]/MAT0[0]/PWM1[2], 28 VDD(3V3), 29 P0[29]/USD_D+, 30 P0[30]/USD_D-, 31 VSS, 32 P1[18]/USB_UP_LED/PWM1[1]/CAP1[0], 33 P1[19]/MCOA0/USB_PPWR/CAP1[1], 34 P1[20]/MIC0/PWM1[2]/SCK0, 35 P1[21]/MCABORT/PWM1[3]/SSEL0, 36 P1[22]/MCOB0/USB_PWRD/MAT1[0], 37 P1[23]/MCI1/PWM1[4]/MISO0, 38 P1[24]/MCI2/PWM1[5]/MOSI0, 39 P1[25]/MCOA1/MAT1[1], 40 P1[26]/MCOB1/PWM1[6]/CAP0[0], 41 VSS, 42 VDD(REG)(3V3), 43 P1[27]/CLKOUT/USB_OVRCR/CAP0[1], 44 P1[28]/MCOA2/PCAP1[0]/MAT0[0], 45 P1[29]/MCOB2/PCAP1[1]/MAT0[1], 46 P0[0]/RD1/TXD3/SDA1, 47 P0[1]/TD1/RXD3/SCL1, 48 P0[10]/TXD2/SDA2/MAT3[0], 49 P0[11]/RXD2/SCL2/MAT3[1], 50 P2[13]/EINT3/I2STX_SDA, 51 P2[12]/EINT2/I2STX_WS, 52 P2[11]/EINT1/I2STX_CLK, 53 P2[10]/EINT0/NMI, 54 VDD(3V3), 55 VSS, 56 P0[22]/RTS1/TD1, 57 P0[21]/RI1/RD1, 58 P0[20]/DTR1/SCL1, 59 P0[19]/DSR1/SDA1, 60 P0[18]/DCD1/MOSI0/MOSI, 61 P0[17]/CTS1/MISO0/MISO, 62 P0[15]/TXD1/SCK0/SCK, 63 P0[16]/RXD1/SSEL0/SSEL, 64 P2[9]/USB_CONNECT/RXD2, 65 P2[8]/TD2/TXD2, 66 P2[7]/RD2/RTS1, 67 P2[6]/PCAP1[0]/RI1/TRACECLK, 68 P2[5]/PWM1[6]/DTR1/TRACEDATA[0], 69 P2[4]/PWM1[5]/DSR1/TRACEDATA[1], 70 P2[3]/PWM1[4]/ DCD1/ TRACEDATA[2], 71 VDD(3V3), 72 VSS, 73 P2[2]/PWM1[3]/CTS1/TRACEDATA[3], 74 P2[1]/PWM1[2]/RXD1, 75 P2[0]/PWM1[1]/TXD1, 76 P0[9]/I2STX_SDA/MOSI1/MAT2[3], 77 P0[8]/I2STX_WS/MISO1/MAT2[2], 78 P0[7]/I2STX_CLK/SCK1/MAT2[1], 79 P0[6]/I2SRX_SDA/SSEL1/MAT2[0], 80 P0[5]/I2SRX_WS/TD2/CAPS2[1], 81 P0[4]/I2SRX_CLK/RD2/CAP2[0], 82 P4[28]/RX_MCLK/MAT2[0]/TXD3, 83 VSS, 84 VDD(REG)(3V3), 85 P4[29]/TX_MCLK/MAT2[1]/RXD3, 86 P1[17]/ENET_MIDO, 87 P1[16]/ENET_MDC, 88 P1[15]/ENET_REF_CLK, 89 P1[14]/ENET_RX_ER, 90 P1[10]/ENET_RXD1, 91 P1[9]/ENET_RXD0, 92 P1[8]/ENET_CRS, 93 P1[4]/ENET_TX_EN, 94 P1[1]/ENET_TXD1, 95 P1[0]/ENET_TXD0, 96 VDD(3V3), 97 VSS, 98 P0[2]/TXD0/AD0[7], 99 P0[3]/RXD0/AD0[6], 100 RTCK
text: LPC1766

## IC_MCU_MM32F0144C6P_48PIN
designator U?, comment MM32F0144C6P
Arm Cortex - M0
footprint S32K116_48PIN
pins: 1 NC, 2 PC13, 3 PC14, 4 PC15, 5 PD0, 6 PD1, 7 NRST1, 8 VSS, 9 VDDA, 10 PA0, 11 PA1, 12 PA2, 13 PA3, 14 PA4, 15 PA5, 16 PA6, 17 PA7, 18 PB0, 19 PB1, 20 PB2, 21 PB10, 22 PB11, 23 VSS, 24 VDD, 25 PB12, 26 PB13, 27 PB14, 28 PB15, 29 PA8, 30 PA9, 31 PA10, 32 PA11, 33 PA12, 34 PA13, 35 PD2, 36 PD3, 37 PA14, 38 PA15, 39 PB3, 40 PB4, 41 PB5, 42 PB6, 43 PB7, 44 PD5/BOOT0, 45 PB8, 46 PB9, 47 VSS, 48 VDD

## IC_MCU_NXP_MCXA145VLL_LQFP100
designator U?, comment MCXA145VLL
MCU 32-bit ARM Cortex M33 RISC 512KB Flash 1.8V/2.5V/3.3V; Manufacturer: NXP Semiconductors; Supplier: Farnell; Supplier Part Number: 4538847; Manufacturer Part Number: MCXA145VLL; Stock: 90; Pricing: 1=5.14, 10=3.93, 25=3.62, 50=3.31, 100=3.18, 250=3.05, 500=2.96 (EUR)
footprint LQFP_100 (MCXA145VLL 0.5mm Pitch)
pins: 1 P1_8, 2 P1_9, 3 P1_10, 4 P1_11, 5 P1_12, 6 P1_13, 7 P1_14, 8 P1_15, 9 P1_29, 10 P1_30, 11 P1_31, 12 VSS, 13 VREFH, 14 VDD_ANA, 15 VDD, 16 P4_2, 17 P4_3, 18 P4_4, 19 P4_5, 20 P4_6, 21 P4_7, 22 P2_0, 23 P2_1, 24 P2_2, 25 P2_3, 26 P2_4, 27 P2_5, 28 P2_6, 29 P2_7, 30 P2_10, 31 P2_11, 32 VSS, 33 VDD, 34 P2_12, 35 P2_13, 36 P2_15, 37 P2_16, 38 P2_17, 39 P2_19, 40 P2_20, 41 P2_21, 42 P2_22, 43 VDD_USB, 44 USB0_DM, 45 USB0_DP, 46 VSS, 47 VDD_P3, 48 P3_31, 49 P3_30, 50 P3_29, 51 P3_28, 52 P3_27, 53 P3_22, 54 P3_21, 55 P3_20, 56 P3_19, 57 P3_18, 58 P3_17, 59 P3_16, 60 P3_15, 61 P3_14, 62 P3_13, 63 P3_12, 64 VSS, 65 VDD_P3, 66 P3_11, 67 P3_10, 68 P3_9, 69 P3_8, 70 P3_7, 71 P3_6, 72 P3_1, 73 P3_0, 74 VSS, 75 VDD_P3, 76 P0_0, 77 P0_1, 78 P0_2, 79 P0_3, 80 P0_6, 81 VDD, 82 VSS, 83 P0_16, 84 P0_17, 85 P0_18, 86 P0_19, 87 P0_20, 88 P0_21, 89 P0_22, 90 P0_23, 91 P1_0, 92 P1_1, 93 P1_2, 94 P1_3, 95 VDD, 96 VSS, 97 P1_4, 98 P1_5, 99 P1_6, 100 P1_7

## IC_MCU_R7FA2A1_LQFP-64
designator U?, comment R7FA2A1
ARM® Cortex®-M23 RA2A1 Microcontroller IC 32-Bit Single-Core 48MHz 256KB (256K x 8) FLASH 64-LFQFP (10x10); Manufacturer: Renesas; Manufacturer Part Number: R7FA2A1AB3CFM#BA0; Core Architecture: ARM; Data Bus Width: 32b; Max Supply Voltage: 5.5V; Min Input Voltage: 1.6V; Supplier: Avnet; Supplier Part Number: R7FA2A1AB3CFM#BA0; RoHS: No; Stock: 757; Pricing: 1280=3.76 (USD); Mounting Technology: Surface Mount; Pins: 64; Case/Package: LQFP; Density: 256KB; Clock Frequency: 48MHz; ComponentLink1URL: https://datasheet.ciiva.com:443/pdfs/VipMasterIC/IC/RNCC/RNCC-S-A0018355334/RNCC-S-A0018550677-1.pdf?src-supplier=IHS+Markit; ComponentLink1Description: https://datasheet.ciiva.com:443/pdfs/VipMasterIC/IC/RNCC/RNCC-S-A0018355334/RNCC-S-A0018550677-1.pdf?src-supplier=IHS+Markit; ComponentLink2URL: https://datasheet.octopart.com/R7FA2A1AB3CFM%23BA0-Renesas-datasheet-155106410.pdf?src-supplier=Future+Electronics; ComponentLink2Description: https://datasheet.octopart.com/R7FA2A1AB3CFM%23BA0-Renesas-datasheet-155106410.pdf?src-supplier=Future+Electronics
footprint LQFP_64 (S32K144 0.5mm Pitch)
pins: 1 P400, 2 P401, 3 P402, 4 P403, 5 VCL, 6 P215/XCIN, 7 P214/XCOUT, 8 VSS, 9 P213/XTAL, 10 P212/EXTAL, 11 VCC, 12 P411, 13 P410, 14 P409, 15 P408, 16 P407, 17 VSS_USB, 18 P915/USB_DM, 19 P914/USB_DP, 20 VCC_USB, 21 VCC_USB_LDO, 22 P206, 23 P205, 24 P204, 25 RES, 26 P201/MD, 27 P200, 28 P304, 29 P303, 30 P302, 31 P301, 32 P300/SWCLK, 33 P108/SWDIO, 34 P110, 35 P111, 36 P112, 37 ADREG, 38 SBIAS/VREFI, 39 AVCC1, 40 AVSS1, 41 P107, 42 P106, 43 P105, 44 P104, 45 P103, 46 P102, 47 P101, 48 P100, 49 P500, 50 P501, 51 P502, 52 P015, 53 P014/VREFL, 54 P013/VREFH, 55 P012, 56 AVCC0, 57 AVSS0, 58 VREFL0, 59 VREFH0, 60 P003, 61 P002, 62 P001, 63 P000, 64 P109

## IC_MCU_R7FA2A1AB3CNE_QFN48
designator U?, comment R7FA2A1AB3CNE
RISC Microcontroller, 32-Bit, FLASH, CORTEX-M23 CPU, 48MHz, CMOS, PQCC48; Manufacturer: Renesas; Manufacturer Part Number: R7FA2A1AB3CNE#AC0; Package Body Material: Plastic; Clock Frequency: 20MHz; Core Architecture: ARM; Max Supply Voltage: 5.5V; Min Input Voltage: 1.6V; Memory Size: 256KB; Number of I2C Channels: 5; Number of UART Channels: 3; RAM Size: 32KB; Number of I/O Lines: 33; Number of Timers/Counters: 4; Package Equivalence Code: LCC48,.27SQ,20; Max Supply Current: 28.5mA; Nominal Supply Voltage: 3.3V; Peripherals: POR,WDT; Interface: I2C,SPI,USB,CAN,SCI; Supplier: Mouser; Supplier Part Number: 968-R7FA2A1AB3CNEAC0; RoHS: Yes; Category: Microcontrollers; Stock: 473; Pricing: 1=5.86, 10=4.49, 50=3.97, 100=3.77, 1000=3.47, 10000=3.46 (USD); Mounting Technology: Surface Mount; Case/Package: HVQCCN; Pins: 48; Package Shape: Square; Terminal Finish: Gold; Min Operating Temperature: -40°C; Max Operating Temperature: 105°C; Memory Format: FLASH; Number of SPI Channels: 5; JESD-609 Code: e4; Min Supply Voltage: 1.6V; Surface Mount: Yes; Technology: CMOS; Terminal Form: No Lead; Terminal Position: QUAD; Length: 7mm; Width: 7mm; Height: 0.8mm; Height - Seated (Max): 0.8mm; Terminal Pitch: 0.5mm; RoHS Compliant: Yes; Reach SVHC Compliant: Yes; Temperature Grade: INDUSTRIAL; ComponentLink1URL: https://datasheet.ciiva.com:443/pdfs/VipMasterIC/IC/RNCC/RNCC-S-A0014784787/RNCC-S-A0014898913-1.pdf?src-supplier=IHS+Markit; ComponentLink1Description: https://datasheet.ciiva.com:443/pdfs/VipMasterIC/IC/RNCC/RNCC-S-A0014784787/RNCC-S-A0014898913-1.pdf?src-supplier=IHS+Markit
footprint QFN-48
pins: 1 P400, 2 P401, 3 VCL, 4 P215/XCIN, 5 P214/XCOUT, 6 VSS, 7 P213/XTAL, 8 P212/EXTAL, 9 VCC, 10 P409, 11 P408, 12 P407, 13 VSS_USB, 14 P915/USB_DM, 15 P914/USB_DP, 16 VCC_USB, 17 VCC_USB_LDO, 18 P206, 19 RES, 20 P201/MD, 21 P200, 22 P302, 23 P301, 24 P300/SWCLK, 25 P108/SWDIO, 26 P110, 27 ADREG, 28 SBIAS/VREFI, 29 AVCC1, 30 AVSS1, 31 P105, 32 P104, 33 P103, 34 P102, 35 P101, 36 P100, 37 P500, 38 P501, 39 P502, 40 P015, 41 P014/VREFL, 42 P013/VREFH, 43 AVCC0, 44 AVSS0, 45 VREFL0, 46 VREFH0, 47 P000, 48 P109, 49 PGND

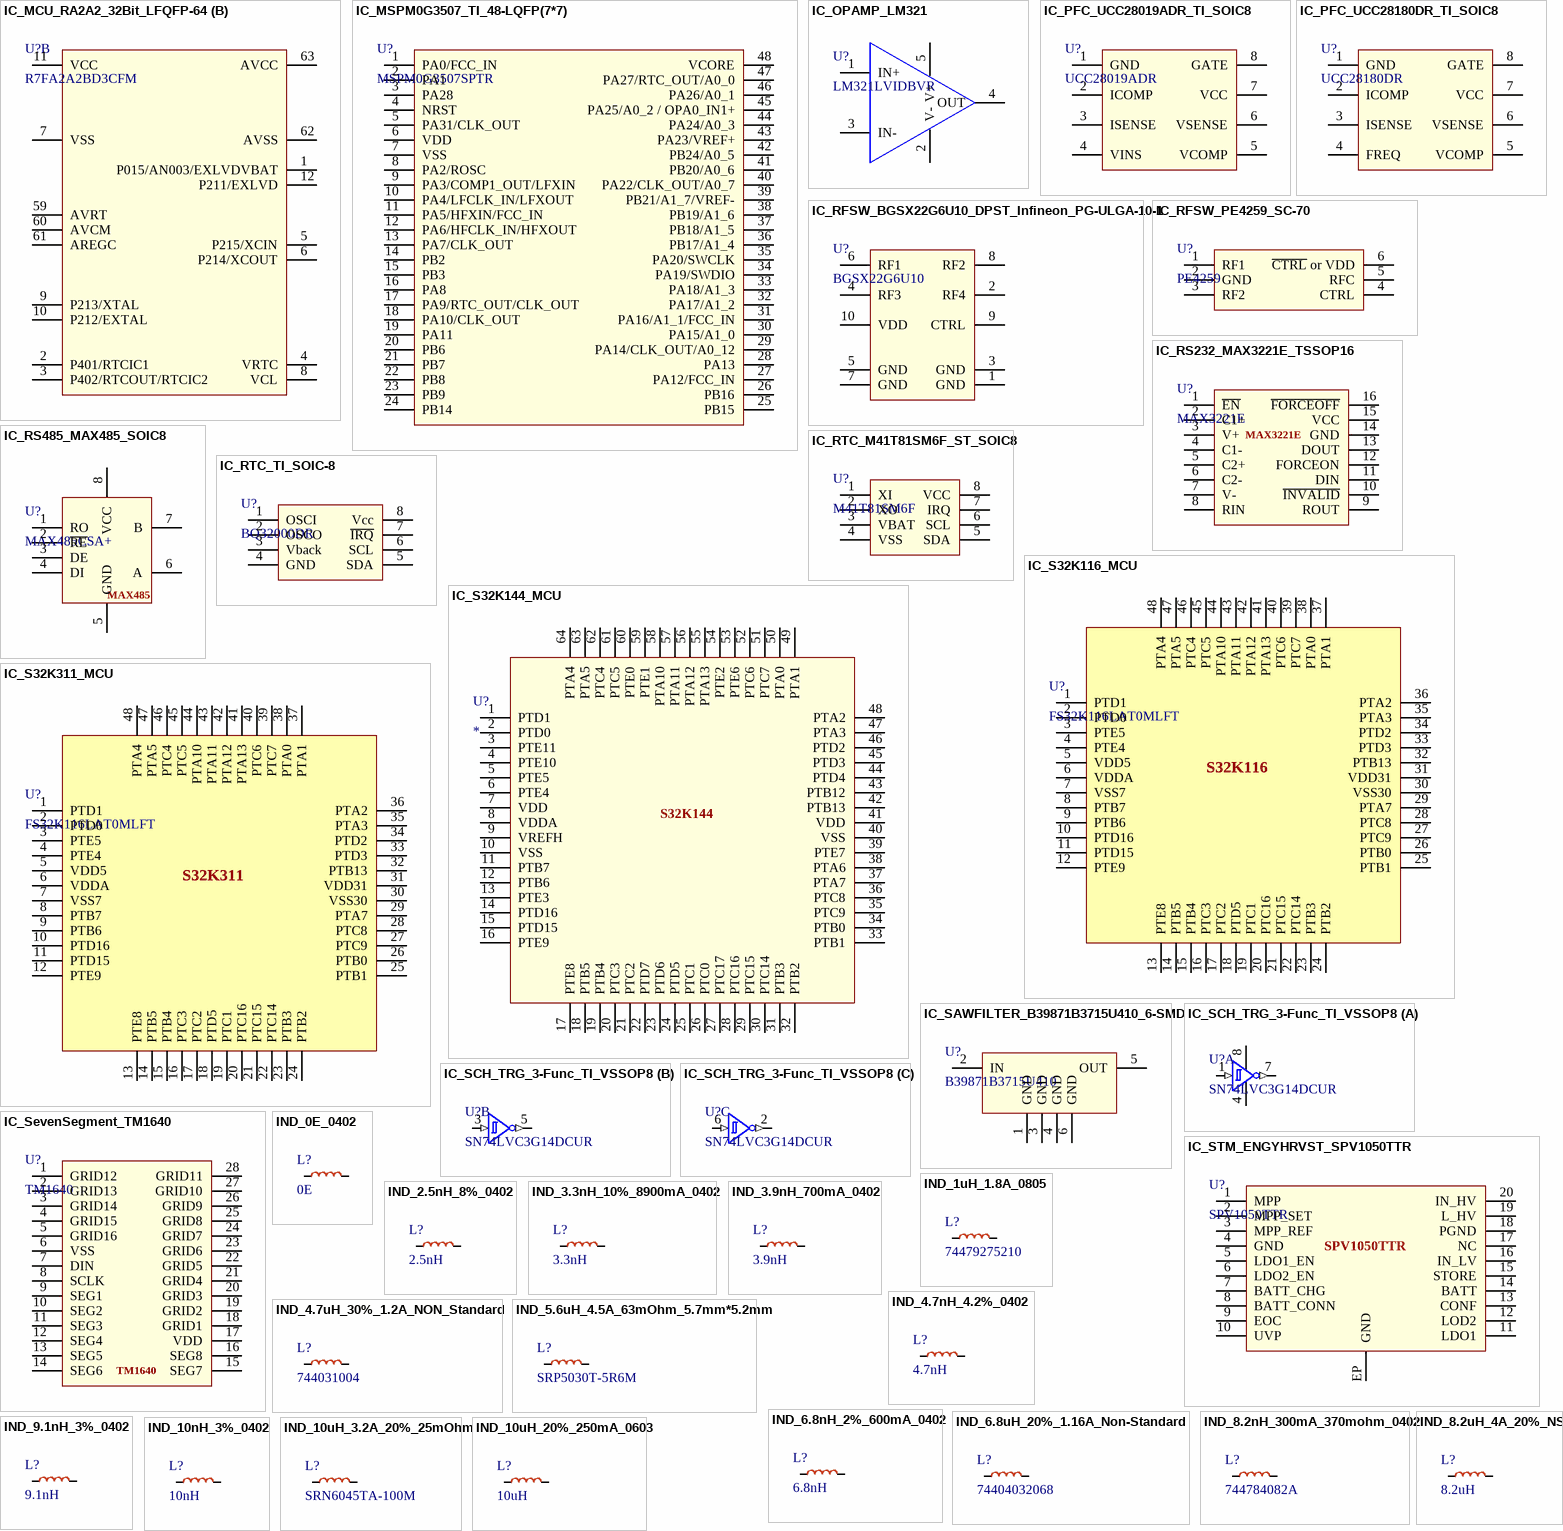
[diagram p9: symbols IC_MCU_RA2A2_32Bit_LFQFP-64 to IND_10uH_20%_250mA_0603]

## IC_MCU_RA2A2_32Bit_LFQFP-64
designator U?, comment R7FA2A2BD3CFM
ARM® Cortex®-M23 RA2A2 Microcontroller IC 32-Bit 48MHz 512KB (512K x 8) FLASH 64-LFQFP (10x10); Manufacturer: Renesas; Manufacturer Part Number: R7FA2A2BD3CFM#BA1; Supplier: Digikey; Supplier Part Number: 559-R7FA2A2BD3CFM#BA1-ND; RoHS: No; Pricing: 1280=3.80648 (USD); ComponentLink1URL: https://datasheet.ciiva.com:443/pdfs/VipMasterIC/IC/RNCC/RNCC-S-A0021340429/RNCC-S-A0023691761-1.pdf?src-supplier=IHS+Markit; ComponentLink1Description: https://datasheet.ciiva.com:443/pdfs/VipMasterIC/IC/RNCC/RNCC-S-A0021340429/RNCC-S-A0023691761-1.pdf?src-supplier=IHS+Markit
footprint LQFP_64 (S32K144 0.5mm Pitch)
part A pins: 13 P210, 14 RES, 15 P201/MD, 16 P200, 17 P600, 18 P300/SWCLK, 19 P108/SWDIO, 20 P209/CAPH, 21 P208/CAPL, 22 VL1, 23 VL2, 24 VL4, 25 P207/VL3, 26 P206/COM0, 27 P205/COM1, 28 P204/COM2, 29 P203/COM3, 30 P301/COM4/SEG0, 31 P302/COM5/SEG1, 32 P303/COM6/SEG2, 33 P304/COM7/SEG3, 34 P100/SEG13, 35 P101/SEG14, 36 P102/SEG15, 37 P103/SEG16, 38 P109/SEG17, 39 P110/SEG18, 40 P111/SEG19, 41 P112/SEG20, 42 P500/SEG28, 43 P501/SEG29, 44 P502/SEG30, 45 P503/SEG31, 46 P504/SEG32, 47 P505/SEG33, 48 P506/SEG34, 49 P013/SEG35, 50 P012/SEG36, 51 ANIP3, 52 ANIN3, 53 ANIP2, 54 ANIN2, 55 ANIP1, 56 ANIN1, 57 ANIP0, 58 ANIN0, 64 P014/AN000
part B pins: 1 P015/AN003/EXLVDVBAT, 2 P401/RTCIC1, 3 P402/RTCOUT/RTCIC2, 4 VRTC, 5 P215/XCIN, 6 P214/XCOUT, 7 VSS, 8 VCL, 9 P213/XTAL, 10 P212/EXTAL, 11 VCC, 12 P211/EXLVD, 59 AVRT, 60 AVCM, 61 AREGC, 62 AVSS, 63 AVCC

## IC_MSPM0G3507_TI_48-LQFP(7*7)
designator U?, comment MSPM0G3507SPTR
ARM® Cortex®-M0+ MSPM0 G Microcontroller IC 32-Bit 80MHz 128KB (128K x 8) FLASH 48-LQFP (7x7); Manufacturer: Texas Instruments; Supplier: Digikey; Supplier Part Number: 296-MSPM0G3507SPTRCT-ND; Manufacturer Part Number: MSPM0G3507SPTR; RoHS: No; Category: DSPs - Digital Signal Processors; Stock: 850; Pricing: 1=2.7, 10=2.428, 25=2.2952, 100=1.9892, 250=1.8872, 500=1.69336 (USD)
footprint S32K116_48PIN
pins: 1 PA0/FCC_IN, 2 PA1, 3 PA28, 4 NRST, 5 PA31/CLK_OUT, 6 VDD, 7 VSS, 8 PA2/ROSC, 9 PA3/COMP1_OUT/LFXIN, 10 PA4/LFCLK_IN/LFXOUT, 11 PA5/HFXIN/FCC_IN, 12 PA6/HFCLK_IN/HFXOUT, 13 PA7/CLK_OUT, 14 PB2, 15 PB3, 16 PA8, 17 PA9/RTC_OUT/CLK_OUT, 18 PA10/CLK_OUT, 19 PA11, 20 PB6, 21 PB7, 22 PB8, 23 PB9, 24 PB14, 25 PB15, 26 PB16, 27 PA12/FCC_IN, 28 PA13, 29 PA14/CLK_OUT/A0_12, 30 PA15/A1_0, 31 PA16/A1_1/FCC_IN, 32 PA17/A1_2, 33 PA18/A1_3, 34 PA19/SWDIO, 35 PA20/SWCLK, 36 PB17/A1_4, 37 PB18/A1_5, 38 PB19/A1_6, 39 PB21/A1_7/VREF-, 40 PA22/CLK_OUT/A0_7, 41 PB20/A0_6, 42 PB24/A0_5, 43 PA23/VREF+, 44 PA24/A0_3, 45 PA25/A0_2 / OPA0_IN1+, 46 PA26/A0_1, 47 PA27/RTC_OUT/A0_0, 48 VCORE

## IC_OPAMP_LM321
designator U?, comment LM321LVIDBVR
Operational Amplifier, 1 Func, 3000uV Offset-Max, PDSO5; Manufacturer: Texas Instruments; Supplier: Mouser; Supplier Part Number: 595-LM321LVIDBVR; Manufacturer Part Number: LM321LVIDBVR; RoHS: Yes; Category: Amplifiers - Op Amps, Buffer, Instrumentation; Stock: 27134; Pricing: 1=0.3, 10=0.208, 50=0.208, 100=0.089, 1000=0.061, 10000=0.041 (USD); Amplifier Type: OPERATIONAL AMPLIFIER; Reach SVHC Compliant: Yes; RoHS Compliant: Yes; ComponentLink1URL: https://www.ti.com:443/lit/ds/symlink/lm321lv.pdf?src-supplier=IHS+Markit; ComponentLink1Description: https://www.ti.com:443/lit/ds/symlink/lm321lv.pdf?src-supplier=IHS+Markit; ComponentLink2URL: http://www.ti.com/general/docs/suppproductinfo.tsp?distId=10&amp;gotoUrl=http%3A%2F%2Fwww.ti.com%2Flit%2Fgpn%2Flm321lv&src-supplier=Digikey; ComponentLink2Description: http://www.ti.com/general/docs/suppproductinfo.tsp?distId=10&amp;gotoUrl=http%3A%2F%2Fwww.ti.com%2Flit%2Fgpn%2Flm321lv&src-supplier=Digikey
footprint SOT23-5
pins: 1 IN+, 2 V-, 3 IN-, 4 OUT, 5 V+

## IC_PFC_UCC28019ADR_TI_SOIC8
designator U?, comment UCC28019ADR
Power Factor Controller, Current-mode, 71kHz Switching Freq-Max, PDSO8; Manufacturer: Texas Instruments; Package Body Material: Plastic; Control Technique: PULSE WIDTH MODULATION; Max Supply Voltage: 21V; Min Input Voltage: 10V; Nominal Supply Voltage: 15V; Channels: 1; Package Equivalence Code: SOP8,.25; Switcher Configuration: BOOST; Qualification Status: Not Qualified; Supplier: Digikey; Supplier Part Number: 296-25424-1-ND; Manufacturer Part Number: UCC28019ADR; RoHS: Yes; Category: Integrated Circuits (ICs); Stock: 2506; Pricing: 1=1.56, 10=1.101, 25=0.9856, 100=0.8583, 250=0.7976, 500=0.76098, 1000=0.73084 (USD); Case/Package: SOP; Pins: 8; Package Shape: Rectangular; Terminal Finish: Nickel; Min Operating Temperature: -40°C; Max Operating Temperature: 125°C; JESD-609 Code: e4; Throw Configuration: POWER FACTOR CONTROLLER; JESD-30 Code: R-PDSO-G8; Moisture Sensitivity Level: 1; Package Style: SMALL OUTLINEMeter; Peak Reflow Temperature (Cel): 260°C; Power Supplies: 15V; Surface Mount: Yes; Frequency: 71kHz; Terminal Form: Gull Wing; Terminal Position: DUAL; Length: 4.9mm; Width: 3.9mm; Height - Seated (Max): 1.75mm; Terminal Pitch: 1.27mm; Temperature Grade: AUTOMOTIVE; Reach SVHC Compliant: Yes; RoHS Compliant: Yes; ComponentLink1URL: https://www.ti.com:443/lit/ds/symlink/ucc28019a.pdf?src-supplier=IHS+Markit; ComponentLink1Description: https://www.ti.com:443/lit/ds/symlink/ucc28019a.pdf?src-supplier=IHS+Markit; ComponentLink2URL: https://datasheet.ciiva.com/1961/ucc28019a-1961226.pdf?src-supplier=Digikey; ComponentLink2Description: https://datasheet.ciiva.com/1961/ucc28019a-1961226.pdf?src-supplier=Digikey; ComponentLink3URL: https://datasheet.ciiva.com/15107/getdatasheetpartid-536716-15107842.pdf?src-supplier=Verical; ComponentLink3Description: https://datasheet.ciiva.com/15107/getdatasheetpartid-536716-15107842.pdf?src-supplier=Verical; ComponentLink4URL: https://datasheet.ciiva.com/1961/ucc28019a-1961227.pdf?src-supplier=Digikey; ComponentLink4Description: https://datasheet.ciiva.com/1961/ucc28019a-1961227.pdf?src-supplier=Digikey; ComponentLink5URL: https://datasheet.ciiva.com/1961/ucc28019a-1961228.pdf?src-supplier=Digikey; ComponentLink5Description: https://datasheet.ciiva.com/1961/ucc28019a-1961228.pdf?src-supplier=Digikey; ComponentLink6URL: https://datasheet.ciiva.com/14264/ucc28019a-14264380.pdf?src-supplier=Avnet; ComponentLink6Description: https://datasheet.ciiva.com/14264/ucc28019a-14264380.pdf?src-supplier=Avnet
footprint SO-8 (1.27mm pitch)
pins: 1 GND, 2 ICOMP, 3 ISENSE, 4 VINS, 5 VCOMP, 6 VSENSE, 7 VCC, 8 GATE

## IC_PFC_UCC28180DR_TI_SOIC8
designator U?, comment UCC28180DR
Power Factor Controller, Current-mode, 275kHz Switching Freq-Max, PDSO8; Manufacturer: Texas Instruments; Package Body Material: Plastic; Control Technique: PULSE WIDTH MODULATION; Max Supply Voltage: 21V; Min Input Voltage: 10.1V; Nominal Supply Voltage: 15V; Channels: 1; Switcher Configuration: BOOST; Supplier: Digikey; Supplier Part Number: 296-44502-1-ND; Manufacturer Part Number: UCC28180DR; RoHS: Yes; Category: Integrated Circuits (ICs); Stock: 6617; Pricing: 1=1.26, 10=0.913, 25=0.8268, 100=0.7318, 250=0.68644, 500=0.6591, 1000=0.63658 (USD); Case/Package: SOP; Pins: 8; Package Shape: Rectangular; Terminal Finish: Nickel; Min Operating Temperature: -40°C; Max Operating Temperature: 125°C; JESD-609 Code: e4; Throw Configuration: POWER FACTOR CONTROLLER; Control Mode: CURRENT-MODE; JESD-30 Code: R-PDSO-G8; Moisture Sensitivity Level: 1; Package Style: SMALL OUTLINEMeter; Peak Reflow Temperature (Cel): 260°C; Surface Mount: Yes; Frequency: 275kHz; Terminal Form: Gull Wing; Terminal Position: DUAL; Length: 4.9mm; Width: 3.9mm; Height - Seated (Max): 1.75mm; Terminal Pitch: 1.27mm; Temperature Grade: AUTOMOTIVE; Reach SVHC Compliant: Yes; RoHS Compliant: Yes; ComponentLink1URL: https://www.ti.com:443/lit/ds/symlink/ucc28180.pdf?src-supplier=IHS+Markit; ComponentLink1Description: https://www.ti.com:443/lit/ds/symlink/ucc28180.pdf?src-supplier=IHS+Markit; ComponentLink2URL: https://datasheet.ciiva.com/29899/ucc28180-29899377.pdf?src-supplier=Avnet; ComponentLink2Description: https://datasheet.ciiva.com/29899/ucc28180-29899377.pdf?src-supplier=Avnet; ComponentLink3URL: https://datasheet.ciiva.com/24141/slusbq5a-317155-24141395.pdf?src-supplier=Mouser; ComponentLink3Description: https://datasheet.ciiva.com/24141/slusbq5a-317155-24141395.pdf?src-supplier=Mouser
footprint SO-8 (1.27mm pitch)
pins: 1 GND, 2 ICOMP, 3 ISENSE, 4 FREQ, 5 VCOMP, 6 VSENSE, 7 VCC, 8 GATE

## IC_RFSW_BGSX22G6U10_DPST_Infineon_PG-ULGA-10-1
designator U?, comment BGSX22G6U10
Rf Switch, 0.4-7.125GHZ, PG-ULGA-10 Rohs Compliant: Yes; Manufacturer: Infineon; Manufacturer Part Number: BGSX22G6U10E6327XTSA1; Supplier: Mouser; Supplier Part Number: 726-BGSX22G6U10E6327; RoHS: No; Category: RF Semiconductors and Devices; Stock: 2679; Pricing: 1=0.61, 10=0.389, 50=0.389, 100=0.316, 1000=0.29, 10000=0.261 (USD)
footprint PG-ULGA-10-1
pins: 1 GND, 2 RF4, 3 GND, 4 RF3, 5 GND, 6 RF1, 7 GND, 8 RF2, 9 CTRL, 10 VDD

## IC_RFSW_PE4259_SC-70
designator U?, comment PE4259
RF Switch, SPDT, 0.01 to 3 GHz, 0.35 to 0.45 dB IL, 29 to 30 dB Isolation, 34 dBm Pwr Rating, SC-70; Manufacturer: Peregrine Semiconductor; Manufacturer Part Number: 4259-63; Supplier: Arrow Electronics; Supplier Part Number: 4259-63; RoHS: Yes; Category: Uncategorized
footprint SC-70 - 6 Lead
pins: 1 RF1, 2 GND, 3 RF2, 4 CTRL, 5 RFC, 6 ~{CTRL} or VDD

## IC_RS232_MAX3221E_TSSOP16
designator U?, comment MAX3221E
Line Transceiver, 1 Func, 1 Driver, 1 Rcvr, PDSO16; Manufacturer: Texas Instruments; Manufacturer Part Number: MAX3221ECPWR; Package Body Material: Plastic; Differential Output: No; Driver Number of Bits: 1; High Level Input Current-Max: 1uA; Input Characteristics: SCHMITT TRIGGER; Output Low Current-Max: 1.6mA; Package Equivalence Code: TSSOP16,.25; Power Supplies: 3.3/5V; Receive Delay-Max: 150ns; Max Supply Current: 1mA; Max Supply Voltage: 3.6V; Min Supply Voltage: 3V; Nominal Supply Voltage: 3.3V; Qualification Status: Not Qualified; Supplier: Mouser; Supplier Part Number: 595-MAX3221ECPWR; RoHS: Yes; Category: Interface ICs; Stock: 15393; Pricing: 1=1.1, 10=0.795, 50=0.718, 100=0.633, 1000=0.542, 10000=0.527 (USD); Case/Package: TSSOP; Pins: 16; Package Shape: Rectangular; Terminal Finish: Nickel; Min Operating Temperature: 0°C; Max Operating Temperature: 70°C; JESD-609 Code: e4; Interface IC Type: LINE TRANSCEIVER; JESD-30 Code: R-PDSO-G16; Moisture Sensitivity Level: 1; Channels: 1; Package Style: SMALL OUTLINE, THIN PROFILE, SHRINK PITCHMeter; Peak Reflow Temperature (Cel): 260°C; Receiver Number of Bits: 1; Surface Mount: Yes; Terminal Form: Gull Wing; Terminal Position: DUAL; Length: 5mm; Width: 4.4mm; Height - Seated (Max): 1.2mm; Terminal Pitch: 0.65mm; Temperature Grade: COMMERCIAL; RoHS Compliant: Yes; Reach SVHC Compliant: Yes; ComponentLink1URL: https://www.ti.com:443/lit/ds/symlink/max3221e.pdf?src-supplier=IHS+Markit; ComponentLink1Description: https://www.ti.com:443/lit/ds/symlink/max3221e.pdf?src-supplier=IHS+Markit; ComponentLink2URL: https://datasheet.ciiva.com/1702/max3221e-1702025.pdf?src-supplier=Digikey; ComponentLink2Description: https://datasheet.ciiva.com/1702/max3221e-1702025.pdf?src-supplier=Digikey; ComponentLink3URL: https://datasheet.ciiva.com/1702/max3221e-1702026.pdf?src-supplier=Digikey; ComponentLink3Description: https://datasheet.ciiva.com/1702/max3221e-1702026.pdf?src-supplier=Digikey; ComponentLink4URL: https://datasheet.ciiva.com/1702/max3221e-1702027.pdf?src-supplier=Digikey; ComponentLink4Description: https://datasheet.ciiva.com/1702/max3221e-1702027.pdf?src-supplier=Digikey; ComponentLink5URL: https://datasheet.ciiva.com/3028/slls686a-3028479.pdf?src-supplier=Avnet; ComponentLink5Description: https://datasheet.ciiva.com/3028/slls686a-3028479.pdf?src-supplier=Avnet
footprint TSSOP16
pins: 1 ~{EN}, 2 C1+, 3 V+, 4 C1-, 5 C2+, 6 C2-, 7 V-, 8 RIN, 9 ROUT, 10 ~{INVALID}, 11 DIN, 12 FORCEON, 13 DOUT, 14 GND, 15 VCC, 16 ~{FORCEOFF}